# Altium schematic symbol library ecoVENTV_v1.1.SCHLIB: 63 symbols
Pins are listed as number, name and electrical type; pins without a type are passive.

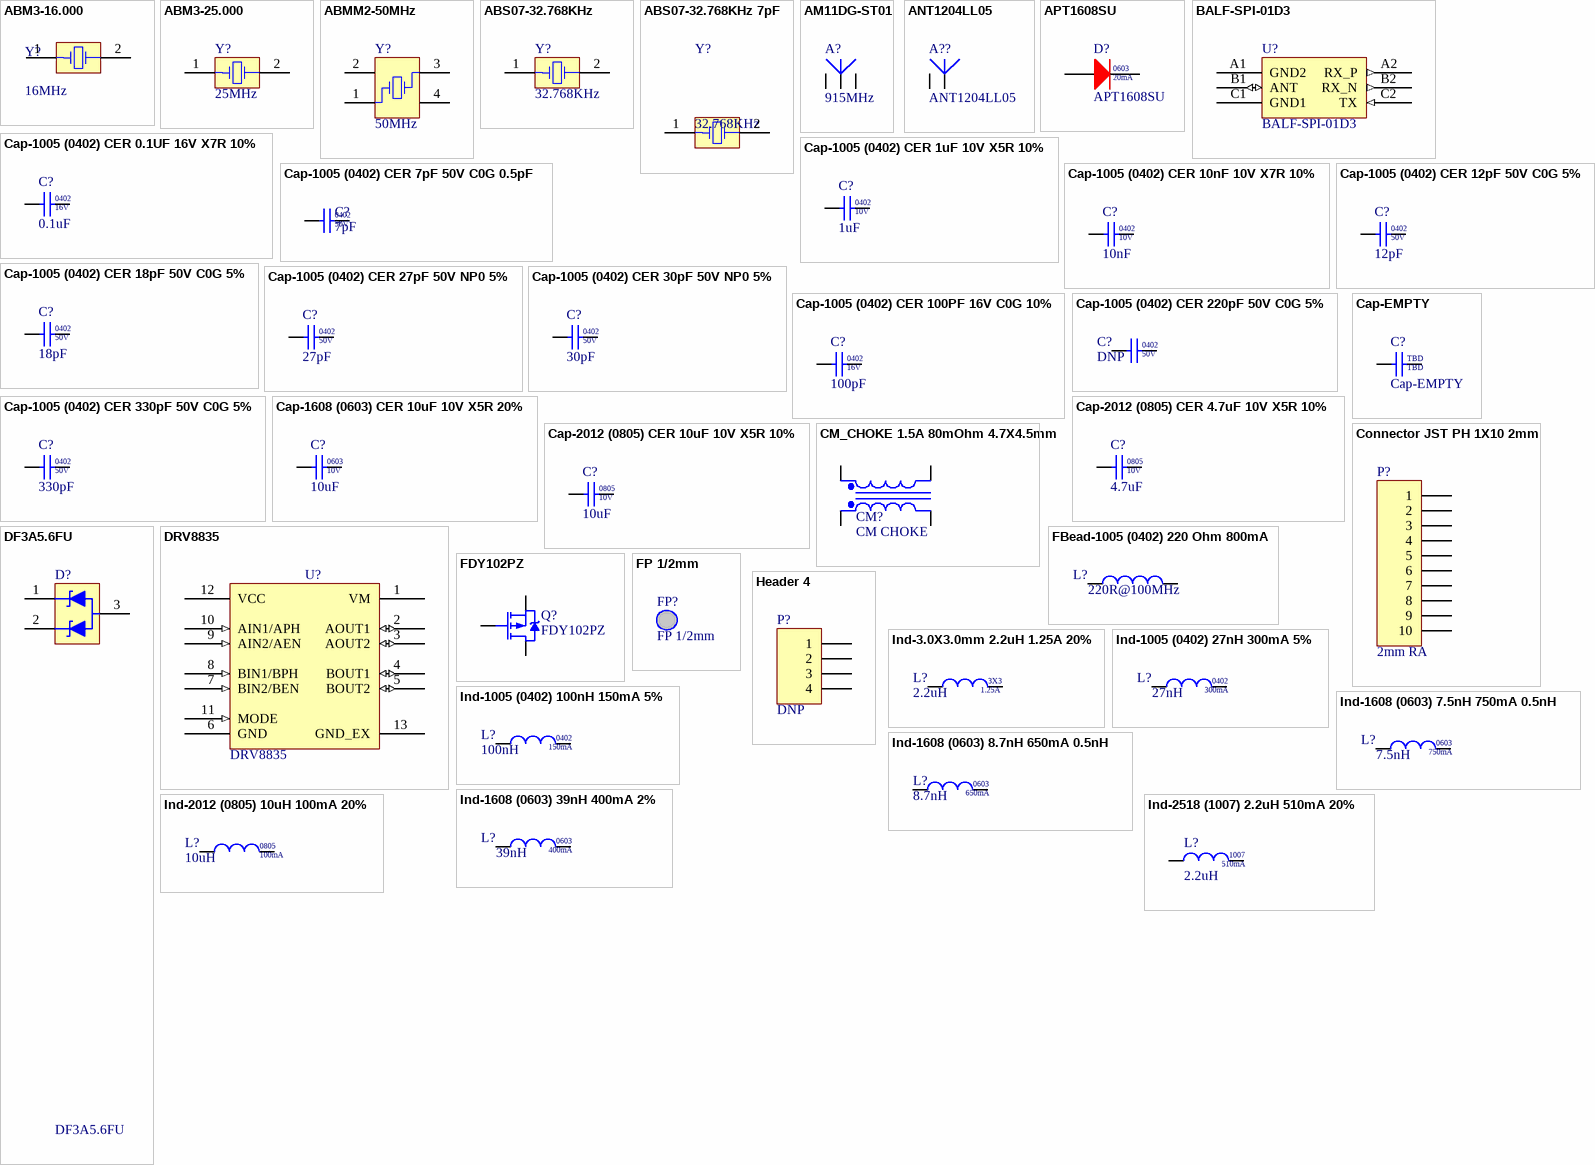
[diagram p0: symbols ABM3-16.000 to Ind-2518 (1007) 2.2uH 510mA 20%]

## ABM3-16.000
designator Y?, comment 16MHz
Crystal Oscillator 16MHz 5.0X3.2mm; Manufacturer: Abracon; M P/N: ABM3-16.000MHZ-B2-T; D P/N: 535-9103-1-ND; D Price: 1.04; S MOQ: 500; S Price: 0.7182; Value: 25MHz; Distributor: Digi Key; Mounting: SM; S P/N: 535-9103-1-ND; Supplier: Digi Key
footprint ABM3 (Quartz, SM; Body 5.0 x 3.2 mm (LxW))
pins: 1 OSC1, 2 COM

## ABM3-25.000
designator Y?, comment 25MHz
Crystal Oscillator 25MHz 5.0X3.2mm; Manufacturer: Abracon; M P/N: ABM3-25.000MHZ-B2-T; D P/N: 535-9108-1-ND; D Price: 1.04; S MOQ: 1000; S Price: 0.57; S P/N: 535-9108-2-ND; Distributor: Digi Key; Mounting: SM; Value: 25MHz; Supplier: Digi Key
footprint ABM3 (Quartz, SM; Body 5.0 x 3.2 mm (LxW))
pins: 1 OSC1, 2 OSC2

## ABMM2-50MHz
designator Y?, comment 50MHz
Crystal 50.000MHZ 6.0mm x 3.6mm 18pF; Manufacturer: Abracon Corporation; D P/N: 535-9646-1-ND; D Price: 1.15; M P/N: ABMM2-50.000MHZ-E2F-T; S MOQ: 1000; S P/N: 535-9646-2-ND; S Price: 0.63; Distributor: Digikey; Mounting: SM; Supplier: Digi Key; Package: 4-SMD; Value: 50MHz
simulation model XTAL (SUBCKT)
footprint XTAL_ABMM2 (Crystal/Oscillator in 6x3.2 mm package)
pins: 1 OSC1, 2 COM, 3 OSC2, 4 COM

## ABS07-32.768KHz
designator Y?, comment 32.768KHz
Crystal 32.768KHZ 3.2mm x 1.5 mm 12.5pF; Manufacturer: Abracon Corporation; D P/N: 535-9542-1-ND; D Price: 1.18; M P/N: ABS07-32.768KHZ-T; S MOQ: 3000; S P/N: 535-9542-2-ND; S Price: 0.34; Distributor: Digikey; Mounting: SM; Supplier: Digi Key; Package: 2-SMD; Value: 32.768KHz
simulation model XTAL (SUBCKT)
footprint ABS07 (Quartz, SM; Body 3.2 x 1.5 mm (LxW))
pins: 1 OSC1, 2 OSC2

## ABS07-32.768KHz 7pF
designator Y?, comment 32.768KHz
Crystal 32.768KHZ 3.2mm x 1.5 mm 7pF; Manufacturer: Abracon Corporation; D P/N: 535-9543-1-ND; D Price: 1.04; M P/N: ABS07-32.768KHZ-7-T; S MOQ: 1000; S Price: 0.6; Distributor: Digikey; Mounting: SM; S P/N: 535-9543-1-ND; Supplier: Digi Key; Package: 2-SMD; Value: 32.768KHz
simulation model XTAL (SUBCKT)
footprint ABS07 (Quartz, SM; Body 3.2 x 1.5 mm (LxW))
pins: 1 OSC1, 2 COM

## AM11DG-ST01
designator A?, comment 915MHz
Mitscubishi SMD Chip Antenna 3.0X10.5mm; Manufacturer: Mitsubishi Materials; D P/N: TBD; M P/N: AM11DG-ST01; S MOQ: 10000; Distributor: TBD; D Price: TBD; Mounting: SMD; Package: 0402; Value: 915MHz
footprint MITSUBISHI_AM11DG-ST01
pins: 1, 2, 3

## ANT1204LL05
designator A??
915 MHz Ceramic Chip Antenna 1204 Series; Manufacturer: Yageo; M P/N: ANT1204LL05R0915A; D Price: 3.11; D P/N: 311-1525-1-ND; S MOQ: 1000; S P/N: 311-1525-2-ND; S Price: 1.51082; Value: 915MHz; Distributor: Digi Key; Mounting: SM; Supplier: Digi Key
footprint YAGEO_ ANT1204LL05
pins: 1, 2

## APT1608SU
designator D?
LED Red 0603 20mA; Manufacturer: Kingbright; D P/N: 754-1123-1-ND; D Price: 0.19; M P/N: APT1608SURCK; S MOQ: 2000; S P/N: 754-1123-2-ND; S Price: 0.062; Distributor: Digikey; Mounting: SMD; Supplier: Digi Key; Package: 0402; Value: Red
footprint DIOC1608X84N_R
pins: 1 A, 2 C
text: 0603; 20mA

## BALF-SPI-01D3
designator U?
50 Ohm Balun to Spirit1 With Integrated Harmonic Filter; Manufacturer: ST Microelectronics; D P/N: 497-13985-1-ND; D Price: 0.74; S P/N: 497-13985-2-ND; S MOQ: 5000 No Stock; S Price: 0.243; Mounting: SMD; M P/N: BALF-SPI-01D3; Distributor: Digikey; Supplier: Digi Key
footprint STM_BALF_SPI
pins: A1 GND2 (power), A2 RX_P (out), B1 ANT (io), B2 RX_N (out), C1 GND1 (power), C2 TX (in)

## Cap-1005 (0402) CER 0.1UF 16V X7R 10%
designator C?, comment 0.1uF
CAP CER 0.1UF 0402 (1005) 16V X7R 10%; Manufacturer: Murata Electronics North America; D P/N: 490-3261-1-ND; D Price: 0.1; M P/N: GRM155R71C104KA88D; S MOQ: 10000; S P/N: 490-3261-2-ND; S Price: 0.00462; Distributor: Digikey; Mounting: SMD; Supplier: Digi Key; Package: 0402; Value: 0.1uF
simulation model CAP (Capacitor)
signal-integrity model Cap
footprint CAPC1005LBITG (Chip Capacitor, Body 1.0x0.5mm, IPC High Density)
footprint CAPC1005X60N
pins: 1, 2
text: 16V

## Cap-1005 (0402) CER 1uF 10V X5R 10%
designator C?, comment 1uF
Cap-1005 (0402) CER 1uF 10V X5R 10%; Manufacturer: Murata Electronics North America; D P/N: 490-3890-1-ND; D Price: 0.18; M P/N: GRM155R61A105KE15D; S MOQ: 10000; S P/N: 490-3890-2-ND; S Price: 0.01323; Distributor: Digikey; Mounting: SMD; Supplier: Digi Key; Package: 0402; Value: 1uF
footprint RAD-0.3 (Capacitor; 2 Leads)
footprint VP32-3.2 (Capacitor, Ceramic, Thru-Hole, Dipped Radial; Body 5.1 x 3.2 mm (WxT) Pin Spacing 2.54 mm (typ))
footprint VP45-3.2 (Capacitor, Ceramic, Thru-Hole, Dipped Radial; Body 7.8 x 3.2 mm (WxT) Pin Spacing 5.08 mm (typ))
simulation model CAP (Capacitor)
signal-integrity model Cap
footprint CAPC1005L (Chip Capacitor, Body 1.0x0.5mm, IPC High Density)
footprint CAPC1608L
footprint CAPC1005LBITG (Chip Capacitor, Body 1.0x0.5mm, IPC High Density)
footprint CAPC1608LBITG (Chip Capacitor, Body 1.6x0.8mm, IPC High Density)
footprint CAPC1005X60N
pins: 1, 2
text: 10V

## Cap-1005 (0402) CER 7pF 50V C0G 0.5pF
designator C?, comment 7pF
Cap-1005 (0402) CER 7pF 50V C0G 0.5pF; Manufacturer: Murata Electronics North America; D P/N: 490-5878-1-ND; D Price: 0.13; M P/N: GRM1555C1H7R0DA01D; S MOQ: 10000; S Price: TBD; Distributor: Digikey; Mounting: SMD; Supplier: Rutronik; Package: 0402; Value: 7pF
footprint RAD-0.3 (Capacitor; 2 Leads)
footprint VP32-3.2 (Capacitor, Ceramic, Thru-Hole, Dipped Radial; Body 5.1 x 3.2 mm (WxT) Pin Spacing 2.54 mm (typ))
footprint VP45-3.2 (Capacitor, Ceramic, Thru-Hole, Dipped Radial; Body 7.8 x 3.2 mm (WxT) Pin Spacing 5.08 mm (typ))
simulation model CAP (Capacitor)
signal-integrity model Cap
footprint CAPC1005L (Chip Capacitor, Body 1.0x0.5mm, IPC High Density)
footprint CAPC1608L
footprint CAPC1005LBITG (Chip Capacitor, Body 1.0x0.5mm, IPC High Density)
footprint CAPC1608LBITG (Chip Capacitor, Body 1.6x0.8mm, IPC High Density)
footprint CAPC1005X60N
pins: 1, 2
text: 50V

## Cap-1005 (0402) CER 10nF 10V X7R 10%
designator C?, comment 10nF
Cap-1005 (0402) CER 10nF 10V X7R 10%; Manufacturer: Samsung; D P/N: 1276-1502-1-ND; D Price: 0.1; M P/N: CL05B103KP5NNNC; S MOQ: 10000; S P/N: 1276-1502-2-ND; S Price: 0.00216; Distributor: Digikey; Mounting: SMD; Supplier: Digi Key; Package: 0402; Value: 10nF
simulation model CAP (Capacitor)
signal-integrity model Cap
footprint CAPC1005X60N
pins: 1, 2
text: 10V

## Cap-1005 (0402) CER 12pF 50V C0G 5%
designator C?, comment 12pF
Cap-1005 (0402) CER 12pF 50V C0G 5%; Manufacturer: Yageo; D P/N: 311-1016-1-ND; D Price: 0.1; M P/N: CC0402JRNPO9BN120; S MOQ: 10000; S P/N: 311-1016-2-ND; S Price: 0.00231; Distributor: Digikey; Mounting: SMD; Supplier: Digi Key; Package: 0402; Value: 12pF
footprint RAD-0.3 (Capacitor; 2 Leads)
footprint VP32-3.2 (Capacitor, Ceramic, Thru-Hole, Dipped Radial; Body 5.1 x 3.2 mm (WxT) Pin Spacing 2.54 mm (typ))
footprint VP45-3.2 (Capacitor, Ceramic, Thru-Hole, Dipped Radial; Body 7.8 x 3.2 mm (WxT) Pin Spacing 5.08 mm (typ))
simulation model CAP (Capacitor)
signal-integrity model Cap
footprint CAPC1005L (Chip Capacitor, Body 1.0x0.5mm, IPC High Density)
footprint CAPC1608L
footprint CAPC1005LBITG (Chip Capacitor, Body 1.0x0.5mm, IPC High Density)
footprint CAPC1608LBITG (Chip Capacitor, Body 1.6x0.8mm, IPC High Density)
footprint CAPC1005X60N
pins: 1, 2
text: 50V

## Cap-1005 (0402) CER 18pF 50V C0G 5%
designator C?, comment 18pF
Cap-1005 (0402) CER 18pF 50V C0G 5%; Manufacturer: Murata Electronics North America; D P/N: 490-6204-1-ND; D Price: 0.1; M P/N: GRM1555C1H180GA01D; S MOQ: 10000; S P/N: 490-6204-2-ND; S Price: 0.00756; Distributor: Digikey; Mounting: SMD; Supplier: Digi Key; Package: 0402; Value: 18pF
footprint RAD-0.3 (Capacitor; 2 Leads)
footprint VP32-3.2 (Capacitor, Ceramic, Thru-Hole, Dipped Radial; Body 5.1 x 3.2 mm (WxT) Pin Spacing 2.54 mm (typ))
footprint VP45-3.2 (Capacitor, Ceramic, Thru-Hole, Dipped Radial; Body 7.8 x 3.2 mm (WxT) Pin Spacing 5.08 mm (typ))
simulation model CAP (Capacitor)
signal-integrity model Cap
footprint CAPC1005L (Chip Capacitor, Body 1.0x0.5mm, IPC High Density)
footprint CAPC1608L
footprint CAPC1005LBITG (Chip Capacitor, Body 1.0x0.5mm, IPC High Density)
footprint CAPC1608LBITG (Chip Capacitor, Body 1.6x0.8mm, IPC High Density)
footprint CAPC1005X60N
pins: 1, 2
text: 50V

## Cap-1005 (0402) CER 27pF 50V NP0 5%
designator C?, comment 27pF
CAP CER 27PF 50V 5% NP0 0402 (1005); Manufacturer: Murata Electronics North America; D P/N: 490-5869-1-ND; D Price: 0.13; M P/N: GRM1555C1H270JA01D; S MOQ: 10000; S P/N: 490-5869-2-ND; S Price: 0.00483; Distributor: Digikey; Mounting: SM; Supplier: Digi Key; Package: 0402; Value: 27pF
simulation model CAP (Capacitor)
signal-integrity model Cap
footprint CAPC1005X60N
pins: 1, 2
text: 50V

## Cap-1005 (0402) CER 30pF 50V NP0 5%
designator C?, comment 30pF
CAP CER 30PF 50V 5% NP0 0402 (1005); Manufacturer: Murata Electronics North America; D P/N: 490-5935-1-ND; D Price: 0.1; M P/N: GRM1555C1H300JA01D; S MOQ: 1000; S Price: 0.0117; Distributor: Digikey; Mounting: SM; S P/N: 490-5935-1-ND; Supplier: Digi Key; Package: 0402; Value: 30pF
simulation model CAP (Capacitor)
signal-integrity model Cap
footprint CAPC1005X60N
pins: 1, 2
text: 50V

## Cap-1005 (0402) CER 100PF 16V C0G 10%
designator C?, comment 100pF
CAP CER 100PF 0402 (1005) 16V C0G 10%; Manufacturer: Kemet; D P/N: 399-7749-1-ND; D Price: 0.1; M P/N: C0402C101K4GACTU; S MOQ: 10000; S P/N: 399-7749-2-ND; S Price: 0.00294; Distributor: Digikey; Mounting: SMD; Supplier: Digi Key; Package: 0402; Value: 100pF
footprint RAD-0.3 (Capacitor; 2 Leads)
footprint VP32-3.2 (Capacitor, Ceramic, Thru-Hole, Dipped Radial; Body 5.1 x 3.2 mm (WxT) Pin Spacing 2.54 mm (typ))
footprint VP45-3.2 (Capacitor, Ceramic, Thru-Hole, Dipped Radial; Body 7.8 x 3.2 mm (WxT) Pin Spacing 5.08 mm (typ))
simulation model CAP (Capacitor)
signal-integrity model Cap
footprint CAPC1005L (Chip Capacitor, Body 1.0x0.5mm, IPC High Density)
footprint CAPC1608L
footprint CAPC1005LBITG (Chip Capacitor, Body 1.0x0.5mm, IPC High Density)
footprint CAPC1608LBITG (Chip Capacitor, Body 1.6x0.8mm, IPC High Density)
footprint CAPC1005X60N
pins: 1, 2
text: 16V

## Cap-1005 (0402) CER 220pF 50V C0G 5%
designator C?, comment DNP
Cap-1005 (0402) CER 220pF 50V C0G 5%; Manufacturer: Murata Electronics North America; D P/N: 490-1293-1-ND; D Price: 0.15; M P/N: GRM1555C1H221JA01D; S MOQ: 10000; S P/N: 490-1293-2-ND; S Price: 0.00819; Distributor: Digikey; Mounting: SMD; Supplier: Digi Key; Package: 0402; Value: 220pF
footprint RAD-0.3 (Capacitor; 2 Leads)
footprint VP32-3.2 (Capacitor, Ceramic, Thru-Hole, Dipped Radial; Body 5.1 x 3.2 mm (WxT) Pin Spacing 2.54 mm (typ))
footprint VP45-3.2 (Capacitor, Ceramic, Thru-Hole, Dipped Radial; Body 7.8 x 3.2 mm (WxT) Pin Spacing 5.08 mm (typ))
simulation model CAP (Capacitor)
signal-integrity model Cap
footprint CAPC1005L (Chip Capacitor, Body 1.0x0.5mm, IPC High Density)
footprint CAPC1608L
footprint CAPC1005LBITG (Chip Capacitor, Body 1.0x0.5mm, IPC High Density)
footprint CAPC1608LBITG (Chip Capacitor, Body 1.6x0.8mm, IPC High Density)
footprint CAPC1005X60N
pins: 1, 2
text: 50V

## Cap-1005 (0402) CER 330pF 50V C0G 5%
designator C?, comment 330pF
Cap-1005 (0402) CER 330pF 50V C0G 5%; Manufacturer: Murata Electronics North America; D P/N: 490-8200-1-ND; D Price: 0.1; M P/N: GRM1555C1H331JA01J; S MOQ: 1000; S Price: 0.0174; Distributor: Digikey; Mounting: SMD; S P/N: 490-8200-1-ND; Supplier: Digi Key; Package: 0402; Value: 330pF
footprint RAD-0.3 (Capacitor; 2 Leads)
footprint VP32-3.2 (Capacitor, Ceramic, Thru-Hole, Dipped Radial; Body 5.1 x 3.2 mm (WxT) Pin Spacing 2.54 mm (typ))
footprint VP45-3.2 (Capacitor, Ceramic, Thru-Hole, Dipped Radial; Body 7.8 x 3.2 mm (WxT) Pin Spacing 5.08 mm (typ))
simulation model CAP (Capacitor)
signal-integrity model Cap
footprint CAPC1005L (Chip Capacitor, Body 1.0x0.5mm, IPC High Density)
footprint CAPC1608L
footprint CAPC1005LBITG (Chip Capacitor, Body 1.0x0.5mm, IPC High Density)
footprint CAPC1608LBITG (Chip Capacitor, Body 1.6x0.8mm, IPC High Density)
footprint CAPC1005X60N
pins: 1, 2
text: 50V

## Cap-1608 (0603) CER 10uF 10V X5R 20%
designator C?, comment 10uF
Capacitor Ceramic 10uF 1608 (0603) 10V X5R 20%; Manufacturer: Taiyo Yuden; D P/N: 587-3412-1-ND; D Price: 0.4; M P/N: LMK107BBJ106MAHT; S MOQ: 4000; S P/N: 587-3412-2-ND; S Price: 0.08296; Distributor: Digikey; Mounting: SM; Supplier: Digi Key; Package: 0603; Value: 10uF
footprint RAD-0.3 (Capacitor; 2 Leads)
footprint VP32-3.2 (Capacitor, Ceramic, Thru-Hole, Dipped Radial; Body 5.1 x 3.2 mm (WxT) Pin Spacing 2.54 mm (typ))
footprint VP45-3.2 (Capacitor, Ceramic, Thru-Hole, Dipped Radial; Body 7.8 x 3.2 mm (WxT) Pin Spacing 5.08 mm (typ))
simulation model CAP (Capacitor)
signal-integrity model Cap
footprint CAPC1005L (Chip Capacitor, Body 1.0x0.5mm, IPC High Density)
footprint CAPC2012L (Chip Capacitor, Body 2.0x1.3mm, IPC High Density)
footprint CAPC1608LBITG (Chip Capacitor, Body 1.6x0.8mm, IPC High Density)
footprint CAPC1608L
footprint CAPC1608X95N
pins: 1, 2
text: 10V

## Cap-2012 (0805) CER 4.7uF 10V X5R 10%
designator C?, comment 4.7uF
Capacitor Ceramic 4.7uF 2012 (0805) 10V X5R 10%; Manufacturer: Samsung Electro-Mechanics America; D P/N: 1276-1259-1-ND; D Price: 0.14; M P/N: CL21A475KPFNNNE; S MOQ: 2000; S P/N: 1276-1259-2-ND; S Price: 0.02256; Distributor: Digikey; Mounting: SM; Supplier: Digi Key; Package: 0805; Value: 4.7uF
simulation model CAP (Capacitor)
signal-integrity model Cap
footprint CAPC2012X145N
pins: 1, 2
text: 10V

## Cap-2012 (0805) CER 10uF 10V X5R 10%
designator C?, comment 10uF
Capacitor Ceramic 10uF 2012 (0805) 10V X5R 10%; Manufacturer: TDK; D P/N: 445-7660-1-ND; D Price: 0.2; M P/N: C2012X5R1A106K125AB; S MOQ: 2000; S P/N: 445-7660-2-ND; S Price: 0.0363; Distributor: Digikey; Mounting: SM; Supplier: Digi Key; Package: 0805; Value: 10uF
simulation model CAP (Capacitor)
signal-integrity model Cap
footprint CAPC2012X145N
pins: 1, 2
text: 10V

## Cap-EMPTY
designator C?
Distributor: Digikey
simulation model CAP (Capacitor)
signal-integrity model Cap
footprint CAPC1005X60N
pins: 1, 2
text: TBD

## CM_CHOKE 1.5A 80mOhm 4.7X4.5mm
designator CM?, comment CM CHOKE
CHOKE COMMON MODE 1400 OHM SMD; Manufacturer: TDK Corporation; D P/N: 445-6136-1-ND; D Price: 1.2; M P/N: ACM4520-142-2P-T000; S MOQ: 800; S P/N: 445-6136-2-ND; S Price: 0.51; Distributor: Digikey; Mounting: SM; Package: Horizontal, 4 PC Pad; Supplier: Digi Key; Value: CM CHOKE
footprint ACM4520 (Common Mode Filter, SM; Body 4.7 x 4.5 mm (LxW))
pins: 1 Pri+, 2 Sec+, 3 Sec-, 4 Pri-

## Connector JST PH 1X10 2mm
designator P?, comment 2mm RA
2mm pitch Disconnectable Crimp Style Connector 1X10; Manufacturer: JST Sales America; D P/N: 455-1727-ND; D Price: 0.46; M P/N: S10B-PH-K-S(LF)(SN); S MOQ: 1000; S Price: 0.21877; Distributor: Digikey; Mounting: TH; S P/N: 455-1727-ND; Supplier: Digi Key; Value: 1X10
footprint JST_S10B-PH-K-S
pins: 1, 2, 3, 4, 5, 6, 7, 8, 9, 10

## DF3A5.6FU
designator D?
30kV ESD Protection Diode, Vr=2.5V, Vz=5.6V, Ilkg=1uA; Manufacturer: Toshiba Semiconductor; M P/N: DF3A5.6LFU(TE85L,F); D P/N: DF3A5.6LFU(TE85LF)CT-ND; D Price: 0.41; S MOQ: 1000; S Price: 0.076; Value: 5.6V; Mounting: SMD; Distributor: Digikey; Supplier: Digi Key; S P/N: DF3A5.6LFU(TE85LF)CT-ND
footprint SOT65P210X110-3N
pins: 1 C1, 2 C2, 3 A

## DRV8835
designator U?
Dual  Low  Voltage  H-Bridge  IC; Manufacturer: Texas Instruments; M P/N: DRV8835DSSR; D P/N: 296-30391-1-ND; D Price: 0.79; S P/N: 296-30391-2-ND; S MOQ: 3000 No Stock; S Price: 0.7875; Mounting: SMD; Distributor: Digikey; Supplier: Digi Key
footprint SON50P200X300X80-12-TP
pins: 1 VM (power), 2 AOUT1 (io), 3 AOUT2 (io), 4 BOUT1 (io), 5 BOUT2 (io), 6 GND (power), 7 BIN2/BEN (in), 8 BIN1/BPH (in), 9 AIN2/AEN (in), 10 AIN1/APH (in), 11 MODE (in), 12 VCC (power), 13 GND_EX (power)

## FBead-1005 (0402) 220 Ohm 800mA
designator L?, comment 220R@100MHz
FERRITE BEAD 220 Ohm 800mA 0402; Manufacturer: Taiyo Yuden; D P/N: 587-2088-1-ND; D Price: 0.1; M P/N: BKP1005HS221-T; S MOQ: 10000; S P/N: 587-2088-2-ND; S Price: 0.01503; Value: 220Ohm; Distributor: Digikey; Mounting: SM; Supplier: Digi Key
simulation model INDUCTOR (Inductor)
signal-integrity model Inductor
footprint INDC1005X60N
pins: 1, 2

## FDY102PZ
designator Q?
P-MOSFET Single 0.83A Low Vgs; Manufacturer: Fairchild; D Price: 0.46; M P/N: FDY102PZCT-ND; S P/N: FDY102PZTR-ND; S Price: 0.08514; S MOQ: 3000; D P/N: FDY102PZ; Distributor: Digikey; Value: FDY102PZ; Mounting: SMD; Package: SC89-3; Supplier: Digi Key
footprint SOT50P160X78-3N
pins: 1 G, 2 S, 3 D

## FP 1/2mm
designator FP?  (no BOM)
Fiducial point; D Price: 0; D P/N: FIDUCIALP; M P/N: FIDUCIALP; Mounting: SM
footprint FIDUCIAL_POINT_1MM

## Header 4
designator P?, comment DNP  (no BOM)
Header, 4-Pin
footprint HDR1X4_100MIL (Connector; Header; 4 Position)
signal-integrity model Connector
pins: 1, 2, 3, 4

## Ind-3.0X3.0mm 2.2uH 1.25A 20%
designator L?, comment 2.2uH
Inductor 2.2uH 1.25A 20% 3.0X3.0mm; Manufacturer: Murata Electronics North America; D P/N: 490-6639-1-ND; D Price: 0.43; M P/N: LQH3NPN2R2MM0L; S MOQ: 1000; S P/N: 490-6639-2-ND; S Price: 0.15462; Distributor: Digikey; Mounting: SMD; Supplier: Digi Key; Package: 1212; Value: 2.2uH
simulation model INDUCTOR (Inductor)
signal-integrity model Inductor
footprint IND_3.0X3.0X1.5MM
pins: 1, 2
text: 3X3; 1.25A

## Ind-1005 (0402) 27nH 300mA 5%
designator L?, comment 27nH
Inductor 27nH 300mA 5% 0402 SMD; Manufacturer: Murata Electronics North America; D P/N: 490-1090-1-ND; D Price: 0.1; M P/N: LQG15HN27NJ02D; S MOQ: 10000; S P/N: 490-1090-2-ND; S Price: 0.01872; Distributor: Digikey; Mounting: SMD; Supplier: Digi Key; Package: 0402; Value: 27nH
simulation model INDUCTOR (Inductor)
signal-integrity model Inductor
footprint INDC1005X60N
pins: 1, 2
text: 300mA

## Ind-1005 (0402) 100nH 150mA 5%
designator L?, comment 100nH
Inductor 100nH 150mA 5% 0402 SMD; Manufacturer: Murata Electronics North America; D P/N: 490-2635-1-ND; D Price: 0.1; M P/N: LQG15HSR10J02D; S MOQ: 10000; S P/N: 490-2635-2-ND; S Price: 0.02208; Distributor: Digikey; Mounting: SMD; Supplier: Digi Key; Package: 0402; Value: 100nH
simulation model INDUCTOR (Inductor)
signal-integrity model Inductor
footprint INDC1005X60N
pins: 1, 2
text: 150mA

## Ind-1608 (0603) 7.5nH 750mA 0.5nH
designator L?, comment 7.5nH
Inductor 7.5nH 750mA 0.5nH 0603 SMD Wirewound; Manufacturer: Murata Electronics North America; D P/N: 490-1166-1-ND; D Price: 0.33; M P/N: LQW18AN7N5D00D; S MOQ: 4000; S P/N: 490-1166-2-ND; S Price: 0.11186; Value: 7.5nH Wirewound; Distributor: Digikey; Mounting: SMD; Supplier: Digi Key; Package: 0402
simulation model INDUCTOR (Inductor)
signal-integrity model Inductor
footprint MURATA_LQW18A
pins: 1, 2
text: 0603; 750mA

## Ind-1608 (0603) 8.7nH 650mA 0.5nH
designator L?, comment 8.7nH
Inductor 8.7nH 650mA 0.5nH 0603 SMD Wirewound; Manufacturer: Murata Electronics North America; D P/N: 490-1168-1-ND; D Price: 0.33; M P/N: LQW18AN8N7D00D; S MOQ: 4000; S P/N: 490-1168-2-ND; S Price: 0.11189; Value: 8.7n Wirewound; Distributor: Digikey; Mounting: SMD; Supplier: Digi Key; Package: 0402
simulation model INDUCTOR (Inductor)
signal-integrity model Inductor
footprint MURATA_LQW18A
pins: 1, 2
text: 0603; 650mA

## Ind-1608 (0603) 39nH 400mA 2%
designator L?, comment 39nH
Inductor 39nH 400mA 2% 0603 SMD Wirewound; Manufacturer: Murata Electronics North America; D P/N: 490-6888-1-ND; D Price: 0.36; M P/N: LQW18AN39NG00D; S MOQ: 4000; S P/N: 490-6888-2-ND; S Price: 0.1224; Value: 39nH Wirewound; Distributor: Digikey; Mounting: SMD; Supplier: Digi Key; Package: 0402
simulation model INDUCTOR (Inductor)
signal-integrity model Inductor
footprint MURATA_LQW18A
pins: 1, 2
text: 0603; 400mA

## Ind-2012 (0805) 10uH 100mA 20%
designator L?, comment 10uH
Inductor 10uH 100mA 20% 0805 SMD; Manufacturer: Murata; D P/N: 490-4029-1-ND; D Price: 0.17; M P/N: LQM21FN100M70L; S MOQ: 3000; S P/N: 490-4029-2-ND; S Price: 0.05418; Distributor: Digikey; Mounting: SMD; Supplier: Digi Key; Package: 0805; Value: 10uH
simulation model INDUCTOR (Inductor)
signal-integrity model Inductor
footprint INDC2012X85N
pins: 1, 2
text: 100mA

## Ind-2518 (1007) 2.2uH 510mA 20%
designator L?, comment 2.2uH
Inductor 2.2uH 510mA 20% 1007; Manufacturer: Taiyo Yuden; D P/N: 587-2244-1-ND; D Price: 0.14; M P/N: CB2518T2R2M; S MOQ: 2000; S P/N: 587-2244-2-ND; S Price: 0.051; Distributor: Digikey; Mounting: SMD; Supplier: Digi Key; Package: 1007; Value: 2.2uH
simulation model INDUCTOR (Inductor)
signal-integrity model Inductor
footprint INDC2518X200N
pins: 1, 2
text: 510mA

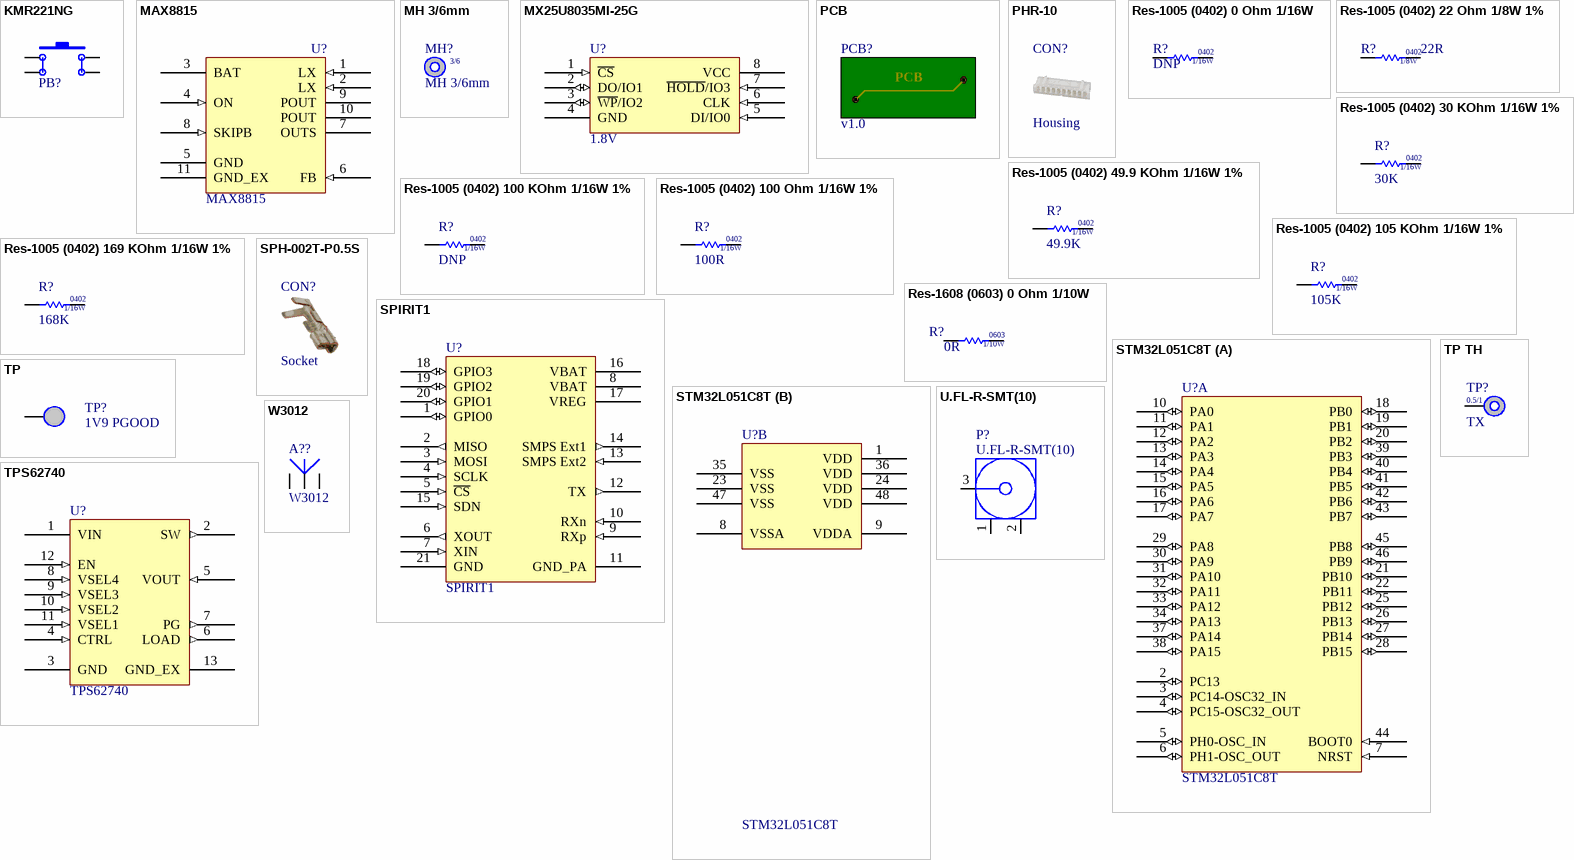
[diagram p1: symbols KMR221NG to W3012]

## KMR221NG
designator PB?, comment switch  (value not drawn)
Push Button SPST-NO 4.6X2.8mm; Manufacturer: C&K Components; D P/N: CKN10244CT-ND; D Price: 0.59; M P/N: KMR221NGLFS; S MOQ: 7000; S P/N: CKN10244TR-ND; S Price: 0.26544; Distributor: Digikey; Mounting: SM; Supplier: Digi Key
footprint CK_KMR221NG
pins: 1, 2, 3, 4

## MAX8815
designator U?
100nA Iq Step Up Converter for Low Power Applications; Manufacturer: Maxim Integrated; M P/N: MAX8815AETB+T; D P/N: MAX8815AETB+TCT-ND; D Price: 2.98; S P/N: MAX8815AETB+TTR-ND; S MOQ: 2500; S Price: 1.34836; Mounting: SMD; Distributor: Digikey; Supplier: Digi Key
footprint TQFN50P300X300X80-10N-TP
pins: 1 LX (in), 2 LX (in), 3 BAT (power), 4 ON (in), 5 GND (power), 6 FB (in), 7 OUTS (power), 8 SKIPB (in), 9 POUT (power), 10 POUT (power), 11 GND_EX (power)

## MH 3/6mm
designator MH?  (no BOM)
Mounting Hole Not-plated; D P/N: MHOLE; D Price: 0; M P/N: MHOLE; Mounting: SM
footprint MHOLE_TH_3-6MM
text: 3/6

## MX25U8035MI-25G
designator U?, comment 1.8V
SPI Flash 8Mbit 1.8V; Manufacturer: Macronix; M P/N: MX25U8035MI-25G; D P/N: 1092-1119-ND; D Price: 1.11; S MOQ: 1000; S Price: 0.82368; Value: 8Mb; Mounting: SMD; Distributor: Digikey; Supplier: Digi Key; S P/N: 1092-1119-ND
footprint SOIC127P600X175-8N
pins: 1 ~{CS} (in), 2 DO/IO1 (io), 3 ~{WP}/IO2 (io), 4 GND (power), 5 DI/IO0 (in), 6 CLK (in), 7 ~{HOLD}/IO3 (in), 8 VCC (power)

## PCB
designator PCB?, comment v1.0  (mechanical)
ecoVENT Vent PCB; Value: v1.0

## PHR-10
designator CON?, comment Housing  (mechanical)
JST Housing for PH Series Connectors 1X10; Manufacturer: JST Sales America; D P/N: 455-1151-ND; D Price: 0.17; M P/N: PHR-10; S MOQ: 1000; S Price: 0.07178; Distributor: Digikey; S P/N: 455-1151-ND; Supplier: Digi Key; Value: 1X10

## Res-1005 (0402) 0 Ohm 1/16W
designator R?, comment DNP
Res-1005 (0402) 0 Ohm 1/16W; Manufacturer: Stackpole Electronics Inc; D P/N: RMCF0402ZT0R00; D Price: 0.020; M P/N: RMCF0402ZT0R00CT-ND; S MOQ: 10000; S P/N: RMCF0402ZT0R00TR-ND; S Price: 0.00132; Value: 0R; Distributor: Digikey; Mounting: SM; Supplier: Digi Key
simulation model RESISTOR (Resistor)
signal-integrity model Res
footprint RESC1005X40AN
pins: 1, 2
text: 0402; 1/16W

## Res-1005 (0402) 22 Ohm 1/8W 1%
designator R?, comment 22R
Res-1005 (0402) 22 Ohm 1/8W 1%; Manufacturer: Vishay Dale; D P/N: 541-22.0YCT-ND; D Price: 0.020; M P/N: CRCW040222R0FKEDHP; S MOQ: 10000; S P/N: 541-22.0YTR-ND; S Price: 0.02376; Distributor: Digikey; Mounting: SM; Supplier: Digi Key; Value: 22R
simulation model RESISTOR (Resistor)
signal-integrity model Res
footprint RESC1005X40AN
pins: 1, 2
text: 0402; 1/8W

## Res-1005 (0402) 30 KOhm 1/16W 1%
designator R?, comment 30K
Res-1005 (0402) 30 KOhm 1/16W 1%; Manufacturer: Yageo; D P/N: 311-30.0KLRCT-ND; D Price: 0.1; M P/N: RC0402FR-0730KL; S MOQ: 10000; S P/N: 311-30.0KLRTR-ND; S Price: 0.00152; Distributor: Digikey; Mounting: SM; Supplier: Digi Key; Value: 30K
simulation model RESISTOR (Resistor)
signal-integrity model Res
footprint RESC1005X40AN
pins: 1, 2
text: 0402; 1/16W

## Res-1005 (0402) 49.9 KOhm 1/16W 1%
designator R?, comment 49.9K
Res-1005 (0402) 49.9 KOhm 1/16W 1%; Manufacturer: Yageo; D P/N: 311-49.9KLRCT-ND; D Price: 0.1; M P/N: RC0402FR-0749K9L; S MOQ: 10000; S P/N: 311-49.9KLRTR-ND; S Price: 0.00152; Distributor: Digikey; Mounting: SM; Supplier: Digi Key; Value: 49.9K
simulation model RESISTOR (Resistor)
signal-integrity model Res
footprint RESC1005X40AN
pins: 1, 2
text: 0402; 1/16W

## Res-1005 (0402) 100 KOhm 1/16W 1%
designator R?, comment DNP
Res-1005 (0402) 100 KOhm 1/16W 1%; Manufacturer: Vishay Dale; D P/N: 311-100KLRCT-ND; D Price: 0.1; M P/N: RC0402FR-07100KL; S MOQ: 10000; S P/N: 311-100KLRTR-ND; S Price: 0.00152; Value: 100K; Distributor: Digikey; Mounting: SM; Supplier: Digi Key
simulation model RESISTOR (Resistor)
signal-integrity model Res
footprint RESC1005X40AN
pins: 1, 2
text: 0402; 1/16W

## Res-1005 (0402) 100 Ohm 1/16W 1%
designator R?, comment 100R
Res-1005 (0402) 100 Ohm 1/16W 1%; Manufacturer: Vishay Dale; D P/N: 541-100LCT-ND; D Price: 0.083; M P/N: CRCW0402100RFKED; S MOQ: 10000; S P/N: 541-100LTR-ND; S Price: 0.0054; Distributor: Digikey; Mounting: SM; Supplier: Digi Key; Value: 100R
simulation model RESISTOR (Resistor)
signal-integrity model Res
footprint RESC1005X40AN
pins: 1, 2
text: 0402; 1/16W

## Res-1005 (0402) 105 KOhm 1/16W 1%
designator R?, comment 105K
Res-1005 (0402) 105 KOhm 1/16W 1%; Manufacturer: Vishay Dale; D P/N: 541-105KLCT-ND; D Price: 0.083; M P/N: CRCW0402105KFKED; S MOQ: 10000; S P/N: 541-105KLTR-ND; S Price: 0.0054; Distributor: Digikey; Mounting: SM; Supplier: Digi Key; Value: 105K
simulation model RESISTOR (Resistor)
signal-integrity model Res
footprint RESC1005X40AN
pins: 1, 2
text: 0402; 1/16W

## Res-1005 (0402) 169 KOhm 1/16W 1%
designator R?, comment 168K
Res-1005 (0402) 169 KOhm 1/16W 1%; Manufacturer: Vishay Dale; D P/N: 541-169KLCT-ND; D Price: 0.083; M P/N: CRCW0402169KFKED; S MOQ: 10000; S P/N: 541-169KLTR-ND; S Price: 0.0054; Distributor: Digikey; Mounting: SM; Supplier: Digi Key; Value: 168K
simulation model RESISTOR (Resistor)
signal-integrity model Res
footprint RESC1005X40AN
pins: 1, 2
text: 0402; 1/16W

## Res-1608 (0603) 0 Ohm 1/10W
designator R?, comment 0R
Res-1608 (0603) 0 Ohm 1/10W; Manufacturer: Samsung Electro-Mechanics America; D P/N: 1276-3510-1-ND; D Price: 0.1; M P/N: RC1608J000CS; S MOQ: 5000; S P/N: 1276-3510-2-ND; S Price: 0.00078; Distributor: Digikey; Mounting: SM; Supplier: Digi Key; Value: 0R
simulation model RESISTOR (Resistor)
signal-integrity model Res
footprint RESC1608X84N
pins: 1, 2
text: 0603; 1/10W

## SPH-002T-P0.5S
designator CON?, comment Socket  (mechanical)
JST Contact for PH Series Connectors; Manufacturer: JST Sales America; D P/N: 455-1127-1-ND; D Price: 0.1; M P/N: SPH-002T-P0.5S; S MOQ: 8000; S P/N: 455-1127-2-ND; S Price: 0.01755; Value: 24-30AWG; Distributor: Digikey; Supplier: Digi Key

## SPIRIT1
designator U?
Low data rate, low power sub-1GHZ transceiver; Manufacturer: ST Microelectronics; M P/N: SPIRIT1QTR; D P/N: 497-13383-1-ND; D Price: 1.53; S P/N: 497-13383-2-ND; S MOQ: 45000; S Price: 1.32; Mounting: SMD; Distributor: Digikey; Supplier: Digi Key
footprint QFN50P400X400X100-21N
pins: 1 GPIO0 (io), 2 MISO (out), 3 MOSI (in), 4 SCLK (in), 5 ~{CS} (in), 6 XOUT (out), 7 XIN (in), 8 VBAT (power), 9 RXp (in), 10 RXn (in), 11 GND_PA (power), 12 TX (out), 13 SMPS Ext2 (in), 14 SMPS Ext1 (out), 15 SDN (in), 16 VBAT (power), 17 VREG (power), 18 GPIO3 (io), 19 GPIO2 (io), 20 GPIO1 (io), 21 GND (power)

## STM32L051C8T
designator U?
48-Pin, Access line, ultra-low-power, 32-bit MCU; Manufacturer: ST Microelectronics; M P/N: STM32L051C8T6; D P/N: 497-14900-ND; D Price: 3.77; S MOQ: 1000 No Stock; S Price: 1.8872; Mounting: SMD; Distributor: Digikey; Supplier: Digi Key; S P/N: 497-14900-ND
footprint QFP50P900X900X160-48N
part A pins: 2 PC13 (io), 3 PC14-OSC32_IN (io), 4 PC15-OSC32_OUT (io), 5 PH0-OSC_IN (io), 6 PH1-OSC_OUT (io), 7 NRST (in), 10 PA0 (io), 11 PA1 (io), 12 PA2 (io), 13 PA3 (io), 14 PA4 (io), 15 PA5 (io), 16 PA6 (io), 17 PA7 (io), 18 PB0 (io), 19 PB1 (io), 20 PB2 (io), 21 PB10 (io), 22 PB11 (io), 25 PB12 (io), 26 PB13 (io), 27 PB14 (io), 28 PB15 (io), 29 PA8 (io), 30 PA9 (io), 31 PA10 (io), 32 PA11 (io), 33 PA12 (io), 34 PA13 (io), 37 PA14 (io), 38 PA15 (io), 39 PB3 (io), 40 PB4 (io), 41 PB5 (io), 42 PB6 (io), 43 PB7 (io), 44 BOOT0 (in), 45 PB8 (io), 46 PB9 (io)
part B pins: 1 VDD (power), 8 VSSA (power), 9 VDDA (power), 23 VSS (power), 24 VDD (power), 35 VSS (power), 36 VDD (power), 47 VSS (power), 48 VDD (power)

## TP
designator TP?, comment 1V9 PGOOD  (no BOM)
Test point; D P/N: TESTP; D Price: 0; M P/N: TESTP; Mounting: SM
signal-integrity model Connector
footprint TEST_POINT_1MM
pins: 1

## TP TH
designator TP?, comment TX  (no BOM)
Test point Through Hole; D P/N: TESTP; D Price: 0; M P/N: TESTP; Mounting: SM
signal-integrity model Connector
footprint TEST_POINT_TH_1MM
pins: 1
text: 0.5/1

## TPS62740
designator U?
360nA Iq Step Down Converter for Low Power Applications; Manufacturer: Texas Instruments; M P/N: TPS62740DSST; D P/N: 296-37134-1-ND; D Price: 2.2; S P/N: 296-37134-2-ND; S MOQ: 250; S Price: 2.1978; Mounting: SMD; Distributor: Digikey; Supplier: Digi Key
footprint SON50P200X300X80-12-TP
pins: 1 VIN (power), 2 SW (out), 3 GND (power), 4 CTRL (in), 5 VOUT (in), 6 LOAD (out), 7 PG (out), 8 VSEL4 (in), 9 VSEL3 (in), 10 VSEL2 (in), 11 VSEL1 (in), 12 EN (in), 13 GND_EX (power)

## U.FL-R-SMT(10)
designator P?
CONN UMC JACK STR 50 OHM SMD; Manufacturer: Hirose; D P/N: H9161CT-ND; D Price: 1.33; S P/N: H9161TR-ND; S MOQ: 2500; S Price: 0.5945; Distributor: Digikey; M P/N: U.FL-R-SMT(10); Mounting: SM; Supplier: Digi Key
footprint U.FL-R-SMT(10) (CONN UMC JACK STR 50 OHM SMD)
pins: 1 (power), 2 (power), 3 (power)

## W3012
designator A??
ISM 900 MHz Ceramic Antenna; Manufacturer: Pulse Electronics Corporation; D Price: 1.81; D P/N: 553-1676-1-ND; S MOQ: 500; S P/N: 553-1676-2-ND; S Price: 1.0675; Value: 900MHz; M P/N: W3012; Distributor: Digi Key; Mounting: SM; Supplier: Digi Key
footprint PULSE_W3012
pins: 1, 2, 3